# Altium footprint library PcbLib1.PcbLib: 4 footprints
Each footprint in its own frame and in the unit in brackets; x right, y up, seen from the top. Pads: shape width x height; smd on the part's side, far side on the other; paste and mask are expansions set on the pad; w line width, h text height; cw(c..) or ccw(c..) is an arc to the next point about the centre after c.
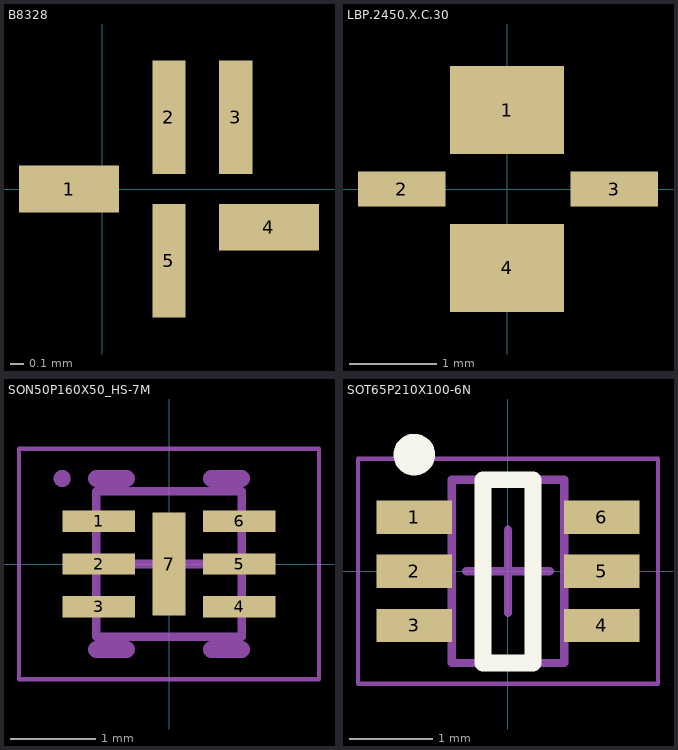
[diagram p0: the footprints below, top view; thin cyan lines are the x and y axes]

## B8328 [mm]
pads (5):
  rect 0.75x0.35 smd mask+0.025: 1(-0.25,0) 4(1.25,-0.288)
  rect 0.25x0.85 smd mask+0.025: 2(0.5,0.537) 3(1,0.537) 5(0.5,-0.537)
3D body: height 0.25, standoff 0, extent 0.381,2.921 0.381,2.921
3D body: height 0.25, standoff 0, extent -0.254,-0.635 1.27,0.635

## LBP.2450.X.C.30 [mm]
pads (4):
  rect 1.3x1 smd: 1(0,0.9) 4(0,-0.9)
  rect 1x0.4 smd mask+0.06: 2(-1.2,0) 3(1.22,0)
3D body: height 0.25, standoff 0, extent -1.005,-0.625 1.005,0.625

## SON50P160X50_HS-7M [mm] "SON, 6-Leads, Body 1,60x1,60mm, Pitch 0,50mm, Thermal Pad 1,20x0,39mm, IPC Low Density"
height 0.5
pads (7):
  rect 0.85x0.25 smd: 1(-0.82,0.5) 2(-0.82,0) 3(-0.82,-0.5) 4(0.82,-0.5) 5(0.82,0) 6(0.82,0.5)
  rect 0.39x1.2 smd: 7(0,0)
Mechanical 13:
  circle w0.1: c-1.25,1 r0.05
  lines w0.1: -0.85,-0.85 0.85,-0.85 0.85,0.85 -0.85,0.85 -0.85,-0.85
  lines w0.2: -0.85,-1 -0.495,-1 ; -0.85,1 -0.495,1 ; 0.495,-1 0.85,-1 ; 0.495,1 0.85,1
Mechanical 15:
  lines w0.05: -1.755,-1.35 1.755,-1.35 1.755,1.35 -1.755,1.35 -1.755,-1.35
  lines w0.1: -0.5,0 0.5,0 ; 0,-0.5 0,0.5
3D body: height 0.5, standoff 0.05, extent -0.85,-0.85 0.85,0.85

## SOT65P210X100-6N [mm] "SOT23, 6-Leads, Body 2,00x2,10mm, Pitch 0,65mm, IPC Medium Density"
height 1
pads (6):
  rect 0.9x0.4 smd: 1(-1.125,0.65) 2(-1.125,0) 3(-1.125,-0.65) 4(1.125,-0.65) 5(1.125,0) 6(1.125,0.65)
Top Overlay:
  circle w0.25: c-1.125,1.4 r0.125
  lines w0.2: -0.3,-1.1 -0.3,1.1 0.3,1.1 0.3,-1.1 -0.3,-1.1
Mechanical 13:
  lines w0.1: -0.675,-1.1 0.675,-1.1 0.675,1.1 -0.675,1.1 -0.675,-1.1
Mechanical 15:
  lines w0.05: -1.8,-1.35 1.8,-1.35 1.8,1.35 -1.8,1.35 -1.8,-1.35
  lines w0.1: -0.5,0 0.5,0 ; 0,-0.5 0,0.5
3D body "SOT65P210X100-6N.step": height 1, standoff 0, extent -1.3,-1.1 1.3,1.1